# Altium footprint library MSS2P3-M3_89A.PcbLib: 1 footprints
Each footprint in its own frame and in the unit in brackets; x right, y up, seen from the top. Pads: shape width x height; smd on the part's side, far side on the other; paste and mask are expansions set on the pad; w line width, h text height; cw(c..) or ccw(c..) is an arc to the next point about the centre after c.
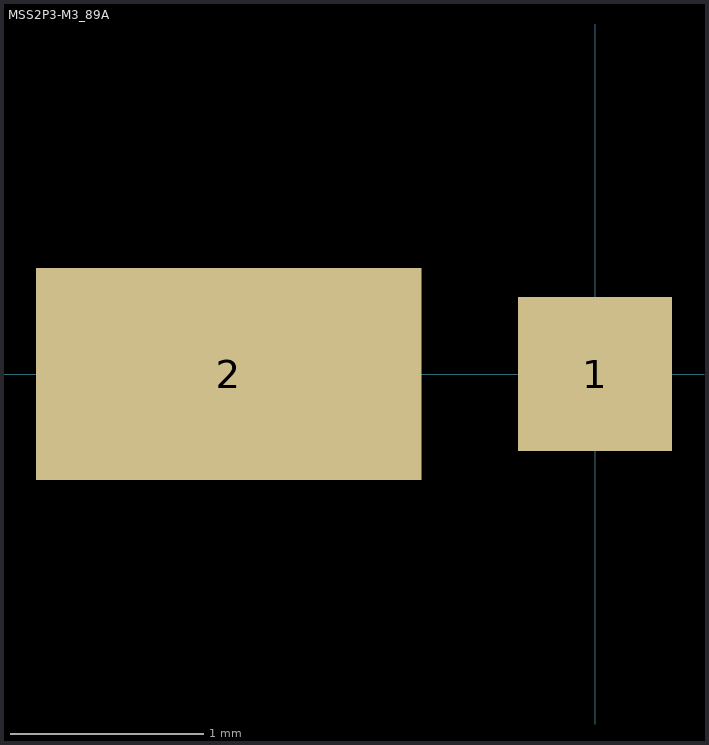
[diagram p0: the footprint, top view; thin cyan lines are the x and y axes]

## MSS2P3-M3_89A [mm]
pads (2):
  rect 0.8x0.8 smd: 1(0,0)
  rect 2x1.1 smd: 2(-1.9,0)